# Altium footprint library THYRISTOR.PcbLib: 2 footprints
Each footprint in its own frame and in the unit in brackets; x right, y up, seen from the top. Pads: shape width x height; smd on the part's side, far side on the other; paste and mask are expansions set on the pad; w line width, h text height; cw(c..) or ccw(c..) is an arc to the next point about the centre after c.
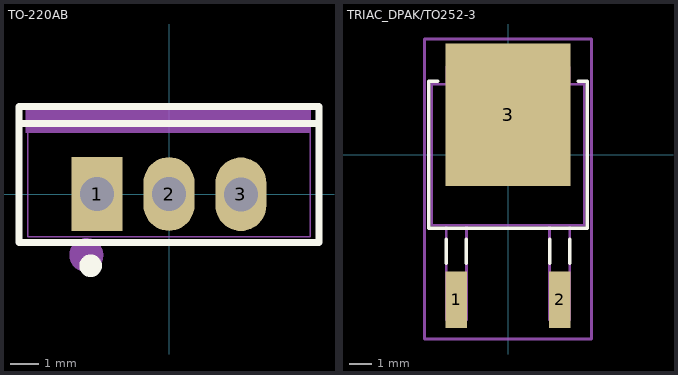
[diagram p0: the footprints below, top view; thin cyan lines are the x and y axes]

## TO-220AB [mm]
pads (3):
  rect 1.8x2.6 hole 1.2: 1(-2.54,0.005)
  oval 1.8x2.6 hole 1.2: 2(0,0.005)
  oval 1.8x2.6 hole 1.2 copper offset 0,0: 3(2.54,-0.005)
Top Overlay:
  lines w0.254: -5.3,2.495 5.3,2.495 ; -5.301,-1.704 -5.301,3.089 -5.301,3.094 5.301,3.094 5.301,-1.704 -5.301,-1.704
  lines w0.4: -2.77,-2.33 ccw(c-2.769,-2.53) -2.768,-2.33
Mechanical 15:
  region: 2.19,-0.33 2.19,0.32 2.89,0.32 2.89,-0.33
  region: -0.35,-0.32 -0.35,0.33 0.35,0.33 0.35,-0.32
  region: -2.89,-0.32 -2.89,0.33 -2.19,0.33 -2.19,-0.32
  region: -4.94,3 -4.94,2.975 -4.975,2.94 -5.025,2.94 -5.06,2.975 -5.06,3 -5.06,3.025 -5.025,3.06 -4.975,3.06 -4.94,3.025
  lines w0.051: -5,-1.5 5,-1.5 5,3 -5,3 -5,-1.5
Mechanical 29:
  circle w0.6: c-2.921,-2.154 r0.3
  region: -5.06,3.01 -5.06,2.17 4.99,2.17 4.99,3.01
  text "'.Designator'" at -3.454,0.228 h1.52
3D body "BTA16-800BRG.STEP": height 19.65, standoff -10.25, extent -5.08,-1.742 5.12,2.758

## TRIAC_DPAK/TO252-3 [mil]
height 531.5
pads (3):
  rect 37x98 smd paste+0 mask+0: 1(-89.76,-251.5) 2(89.76,-251.5)
  rect 217x248 smd paste+0 mask+0: 3(0,69.5)
Top Overlay:
  lines w6: -121.6,127.5 -137.5,127.5 -137.5,-127.5 137.5,-127.5 137.5,127.5 121.6,127.5 ; -107.26,-188.5 -107.26,-146.5 ; -72.26,-188.5 -72.26,-146.5 ; 72.26,-188.5 72.26,-146.5 ; 107.26,-188.5 107.26,-146.5
Mechanical 15:
  lines w5: -106,123 -106,153.07 -82.62,179.5 82.17,179.5 106,152.57 106,122.5 ; -132.5,-122.5 -132.5,122.5 132.5,122.5 132.5,-122.5 -132.5,-122.5 ; -107.26,-286.5 -107.26,-122.5 -72.26,-122.5 -72.26,-286.5 -107.26,-286.5 ; 72.26,-286.5 72.26,-122.5 107.26,-122.5 107.26,-286.5 72.26,-286.5
  text "*" at -107.26,-122.5 h50
Mechanical 29:
  lines w5: -145,-320 -145,201 145,201 145,-320 -145,-320
  text "'.Designator'" at 52.36,-129.01 h62.99
3D body "DPAK_410-8BTR_STM.step": height 69.59, standoff 0.5, extent -132.52,-286.5 132.52,172.51